# Altium footprint library CAPPRD500W50D1000H1600V - 0 - 0.PcbLib: 1 footprints
Each footprint in its own frame and in the unit in brackets; x right, y up, seen from the top. Pads: shape width x height; smd on the part's side, far side on the other; paste and mask are expansions set on the pad; w line width, h text height; cw(c..) or ccw(c..) is an arc to the next point about the centre after c.
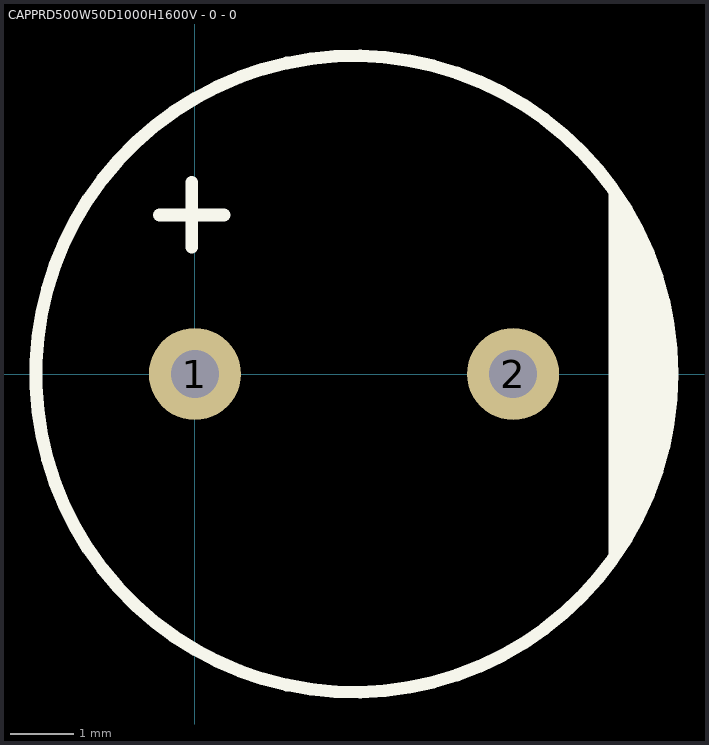
[diagram p0: the footprint, top view; thin cyan lines are the x and y axes]

## CAPPRD500W50D1000H1600V - 0 - 0 [mm] "CAP ALUM RADIAL DIA 10MM HEIGHT 16MM PITCH 5MM"
height 16
pads (2):
  round 1.45 hole 0.75: 1(0,0) 2(5,0)
Top Overlay:
  circle w0.2: c2.5,0 r5
  region: 6.5,3 6.5,-3 7.2,-1.8 7.5,-0.4 7.5,0.7 7,2.3
  lines w0.2: -0.558,2.5 0.458,2.5 ; -0.05,1.992 -0.05,3.008
3D body: height 10, standoff 0, extent 8.8,2.4 8.8,2.4
3D body: height 16, standoff 0, extent -2.5,-5 7.5,5